# Altium schematic symbol library DF40GB(1.5)-48DS-0.4V.Schlib: 1 symbol
Pins are listed as number, name and electrical type; pins without a type are passive.

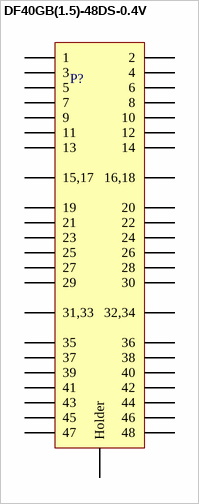
[diagram p0: symbol DF40GB(1.5)-48DS-0.4V]

## DF40GB(1.5)-48DS-0.4V
designator P?
DF40 USB4 Compatible Receptacle
pins: 1, 2, 3, 4, 5, 6, 7, 8, 9, 10, 11, 12, 13, 14, 15 15,17, 16 16,18, 19, 20, 21, 22, 23, 24, 25, 26, 27, 28, 29, 30, 31 31,33, 32 32,34, 35, 36, 37, 38, 39, 40, 41, 42, 43, 44, 45, 46, 47, 48, 49 Holder